# EAGLE library part MC33502* (library mita-akiba)
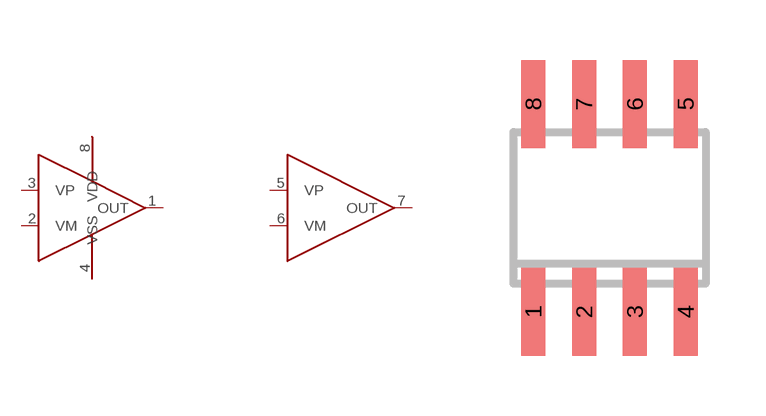
[diagram p44: symbol with the pads of SO08; footprint SO08]

Designator prefix -; gates G$1=OPAMPVCCVSS G$2=OPAMP

## MC33502SO8  [SO08]
1  G$1:OUT
2  G$1:VM
3  G$1:VP
4  G$1:VSS  pwr
5  G$2:VP
6  G$2:VM
7  G$2:OUT
8  G$1:VDD  pwr

## Footprint SO08 (pad centres in mm)
SMALL OUTLINE INTEGRATED CIRCUIT body 3.9 mm/JEDEC MS-012AA
smd 0.6 x 2.2: 1 -1.905,-2.6; 2 -0.635,-2.6; 3 0.635,-2.6; 4 1.905,-2.6; 5 1.905,2.6; 6 0.635,2.6; 7 -0.635,2.6; 8 -1.905,2.6